# Altium schematic symbol library STK-PL50A.SchLib: 1 symbol
Pins are listed as number, name and electrical type; pins without a type are passive.

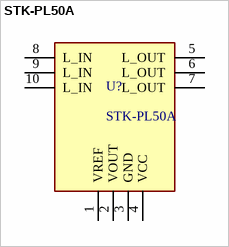
[diagram p0: symbol STK-PL50A]

## STK-PL50A
designator U?
footprint STK-PL50A
pins: 1 VREF, 2 VOUT, 3 GND, 4 VCC, 5 L_OUT, 6 L_OUT, 7 L_OUT, 8 L_IN, 9 L_IN, 10 L_IN